# EAGLE library part AC4790 (library laird-tech)
RX TXRX MOD ISM < 1GHZ MMCX SMD
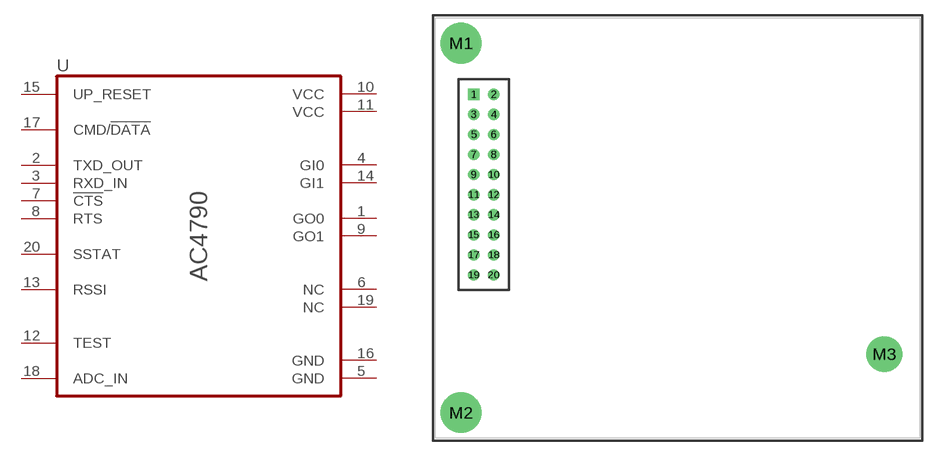
[diagram p1: symbol with the pads of AC4790; footprint AC4790]

Designator prefix U

## AC4790  [AC4790]
1  GO0
2  TXD_OUT  out
3  RXD_IN  in
4  GI0
5  GND  pwr
6  NC
7  !CTS!  out
8  RTS  in
9  GO1
10  VCC
11  VCC
12  TEST
13  RSSI  out
14  GI1
15  UP_RESET
16  GND
17  CMD/!DATA!
18  ADC_IN
19  NC
20  SSTAT  out

## Footprint AC4790 (pad centres in mm)
AC4790 RF MODULE
drill 0.61 square: 1 3.81,34.256
drill 0.61: 2 5.81,34.256; 3 3.81,32.256; 4 5.81,32.256; 5 3.81,30.256; 6 5.81,30.256; 7 3.81,28.256; 8 5.81,28.256; 9 3.81,26.256; 10 5.81,26.256; 11 3.81,24.256; 12 5.81,24.256; 13 3.81,22.256; 14 5.81,22.256; 15 3.81,20.256; 16 5.81,20.256; 17 3.81,18.256; 18 5.81,18.256; 19 3.81,16.256; 20 5.81,16.256
drill 3.048: M1 2.54,39.37; M2 2.54,2.54
drill 2.54: M3 44.704,8.382